# Altium footprint library JS202011SCQN.PcbLib: 1 footprints
Each footprint in its own frame and in the unit in brackets; x right, y up, seen from the top. Pads: shape width x height; smd on the part's side, far side on the other; paste and mask are expansions set on the pad; w line width, h text height; cw(c..) or ccw(c..) is an arc to the next point about the centre after c.
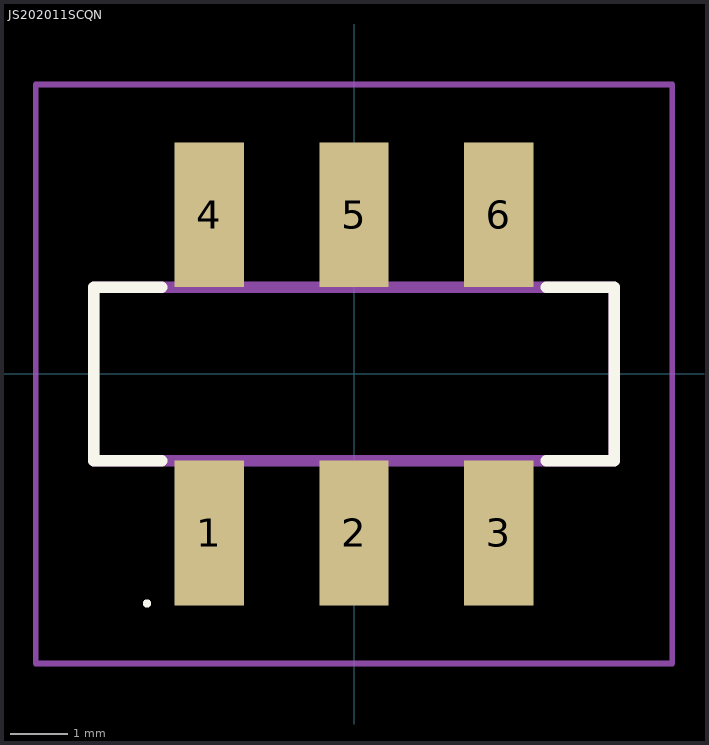
[diagram p0: the footprint, top view; thin cyan lines are the x and y axes]

## JS202011SCQN [mm]
pads (6):
  rect 1.2x2.5 smd: 1(-2.5,-2.75) 2(0,-2.75) 3(2.5,-2.75) 4(-2.5,2.75) 5(0,2.75) 6(2.5,2.75)
Top Overlay:
  lines w0.072: -3.614,-3.968 -3.614,-3.968 ; -3.614,-3.968 ccw(c-3.578,-3.968) -3.542,-3.968 ; -3.614,-3.968 cw(c-3.578,-3.968) -3.542,-3.968 ; -3.542,-3.968 -3.542,-3.968
  lines w0.2: -3.323,-1.5 -4.5,-1.5 -4.5,1.5 -3.323,1.5 ; 3.323,-1.5 4.5,-1.5 4.5,1.5 3.323,1.5
Mechanical 15:
  lines w0.2: -4.5,-1.5 4.5,-1.5 4.5,1.5 -4.5,1.5 -4.5,-1.5
Mechanical 20:
  lines w0.1: -5.5,-5.004 5.5,-5.004 5.5,5 -5.5,5 -5.5,-5.004